# Altium schematic symbol library K04FC07B.SchLib: 1 symbol
Pins are listed as number, name and electrical type; pins without a type are passive.

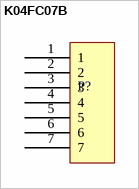
[diagram p0: symbol K04FC07B]

## K04FC07B
designator P?
DGDTE Battery Connector, Female - 7 Pin
pins: 1, 2, 3, 4, 5, 6, 7